# Altium footprint library CommonComponents_DIY.PcbLib: 8 footprints
Each footprint in its own frame and in the unit in brackets; x right, y up, seen from the top. Pads: shape width x height; smd on the part's side, far side on the other; paste and mask are expansions set on the pad; w line width, h text height; cw(c..) or ccw(c..) is an arc to the next point about the centre after c.
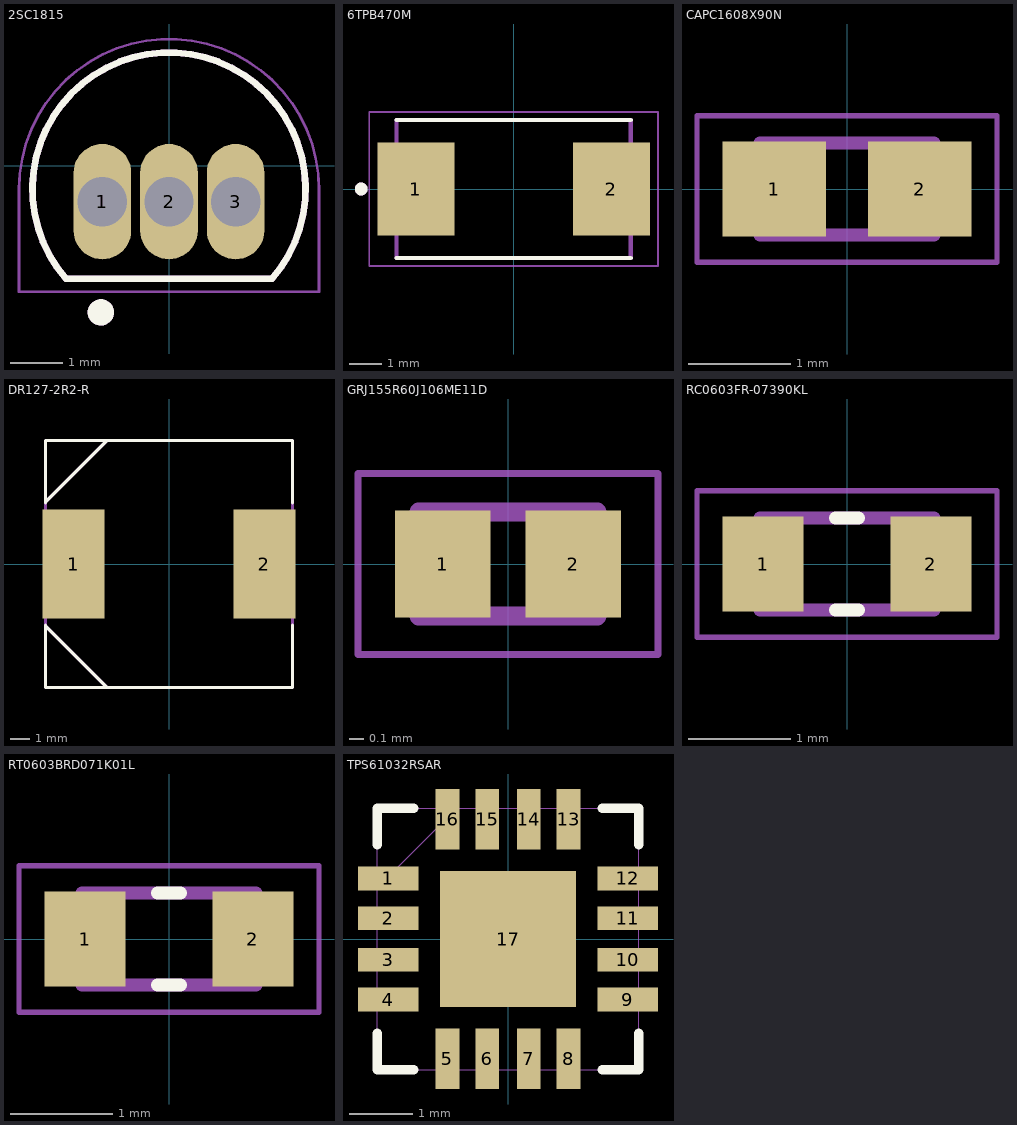
[diagram p0: the footprints below, top view; thin cyan lines are the x and y axes]

## 2SC1815 [mm]
pads (3):
  oval 1.1x2.2 hole 0.94: 1(-1.27,-0.69) 2(0,-0.69) 3(1.27,-0.69)
Top Overlay:
  circle w0.3: c-1.3,-2.8 r0.1
  lines w0.127: -1.965,-2.158 cw(c0,-0.45) 1.965,-2.158 -1.965,-2.158
Mechanical 13:
  circle w0.3: c-1.3,-2.8 r0.1
  lines w0.127: -1.965,-2.158 cw(c0,-0.45) 1.965,-2.158 -1.965,-2.158
Mechanical 15:
  lines w0.05: -2.86,-2.41 2.86,-2.41 2.86,-0.448 ccw(c0,-0.448) -2.86,-0.448 -2.86,-2.41
3D body "2SC1815--3DModel-STEP-1.STEP": height 5.35, standoff -12.69, extent -2.412,-2.032 2.412,1.651

## 6TPB470M [mm]
pads (2):
  rect 2.4x2.9 smd: 1(-3.05,0) 2(3.05,0)
Top Overlay:
  circle w0.2: c-4.75,0 r0.1
  lines w0.127: -3.65,-2.15 3.65,-2.15 ; -3.65,2.15 3.65,2.15
Mechanical 13:
  circle w0.2: c-4.75,0 r0.1
  lines w0.127: -3.65,-2.15 -3.65,2.15 3.65,2.15 3.65,-2.15 -3.65,-2.15
Mechanical 15:
  lines w0.05: -4.5,-2.4 -4.5,2.4 4.5,2.4 4.5,-2.4 -4.5,-2.4
3D body "PCAP_TPB_D4_PAN.step": height 3.99, standoff 0, extent -3.797,-2.25 3.797,2.25

## CAPC1608X90N [mm]
pads (2):
  rect 1.01x0.93 smd: 1(-0.709,0) 2(0.709,0)
Mechanical 13:
  lines w0.127: -0.85,-0.45 0.85,-0.45 0.85,0.45 -0.85,0.45 -0.85,-0.45
Mechanical 15:
  lines w0.05: -1.465,-0.715 1.465,-0.715 1.465,0.715 -1.465,0.715 -1.465,-0.715
3D body "step_temp.STEP": height 0.9, standoff 0, extent -0.8,-0.4 0.8,0.4

## DR127-2R2-R [mil]
pads (2):
  rect 124x217 smd: 1(-190,0) 2(190,0)
Top Overlay:
  lines w6: -246,-121 -246,-123 ; -246,121 -246,246 246,246 246,121 ; -246,123 -123,246 ; -123,-246 -246,-123 ; 246,-121 246,-246 -246,-246 -246,-123
Mechanical 13:
  lines w6: -246,-123 -123,-246 ; -246,123 -123,246 ; -246,-246 246,-246 246,246 -246,246 -246,-246
3D body: height 157.01, standoff 0, extent -245,-245 245,245

## GRJ155R60J106ME11D [mm]
pads (2):
  rect 0.64x0.72 smd: 1(-0.439,0) 2(0.439,0)
Mechanical 13:
  lines w0.127: -0.6,-0.35 0.6,-0.35 0.6,0.35 -0.6,0.35 -0.6,-0.35
Mechanical 15:
  lines w0.05: -1.008,-0.608 1.008,-0.608 1.008,0.608 -1.008,0.608 -1.008,-0.608
3D body "step_temp.STEP": height 0.7, standoff 0, extent -0.5,-0.25 0.5,0.25

## RC0603FR-07390KL [mm]
pads (2):
  rect 0.79x0.93 smd: 1(-0.82,0) 2(0.82,0)
Top Overlay:
  lines w0.127: -0.11,-0.45 0.11,-0.45 ; -0.11,0.45 0.11,0.45
Mechanical 13:
  lines w0.127: -0.85,-0.45 -0.85,0.45 0.85,0.45 0.85,-0.45 -0.85,-0.45
Mechanical 15:
  lines w0.05: -1.465,-0.715 -1.465,0.715 1.465,0.715 1.465,-0.715 -1.465,-0.715
3D body "RC0603FR-07390KL.STEP": height 0.56, standoff 0.01, extent -0.8,-0.4 0.8,0.4

## RT0603BRD071K01L [mm]
pads (2):
  rect 0.79x0.93 smd: 1(-0.82,0) 2(0.82,0)
Top Overlay:
  lines w0.127: -0.11,-0.45 0.11,-0.45 ; -0.11,0.45 0.11,0.45
Mechanical 13:
  lines w0.127: -0.85,-0.45 0.85,-0.45 0.85,0.45 -0.85,0.45 -0.85,-0.45
Mechanical 15:
  lines w0.05: -1.465,-0.715 1.465,-0.715 1.465,0.715 -1.465,0.715 -1.465,-0.715
3D body "RT0603BRD071K01L.STEP": height 0.56, standoff 0.01, extent -0.8,-0.4 0.8,0.4

## TPS61032RSAR [mil]
pads (17):
  rect 38x15 smd: 1(-75,38) 2(-75,13) 3(-75,-13) 4(-75,-38) 9(75,-38) 10(75,-13) 11(75,13) 12(75,38)
  rect 15x38 smd: 5(-38,-75) 6(-13,-75) 7(13,-75) 8(38,-75) 13(38,75) 14(13,75) 15(-13,75) 16(-38,75)
  rect 85x85 smd: 17(0,0)
Top Overlay:
  lines w6: -82,-59 -82,-82 -59,-82 ; -82,59 -82,82 -59,82 ; 59,-82 82,-82 82,-59 ; 59,82 82,82 82,59
Mechanical 13:
  lines w0: -82,-46 -82,-31 ; -82,-20 -82,-5 ; -82,5 -82,20 ; -82,31 -82,46 ; -82,32 -32,82 ; -46,-82 -31,-82 ; -46,82 -31,82 ; -20,-82 -5,-82 ; -20,82 -5,82 ; 5,-82 20,-82 ; 5,82 20,82 ; 31,-82 46,-82 ; 31,82 46,82 ; 82,-46 82,-31 ; 82,-20 82,-5 ; 82,5 82,20 ; 82,31 82,46 ; -82,-82 -82,82 82,82 82,-82 -82,-82
3D body "TPS61032RSAR.STEP": height 39.87, standoff 0.5, extent -78.73,-78.73 78.74,78.74